# EAGLE library part 5176381-3 (library kotuku)
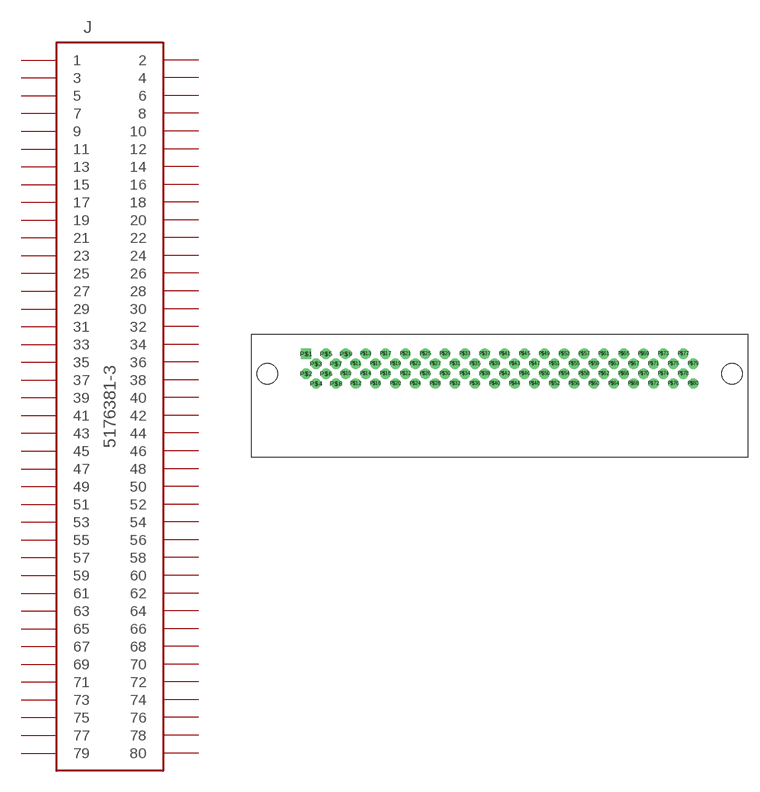
[diagram p21: symbol with the pads of 5176381-3; footprint 5176381-3]

Designator prefix J

## 5176381-3  [5176381-3]
P$1  1
P$2  2
P$3  3
P$4  4
P$5  5
P$6  6
P$7  7
P$8  8
P$9  9
P$10  10
P$11  11
P$12  12
P$13  13
P$14  14
P$15  15
P$16  16
P$17  17
P$18  18
P$19  19
P$20  20
P$21  21
P$22  22
P$23  23
P$24  24
P$25  25
P$26  26
P$27  27
P$28  28
P$29  29
P$30  30
P$31  31
P$32  32
P$33  33
P$34  34
P$35  35
P$36  36
P$37  37
P$38  38
P$39  39
P$40  40
P$41  41
P$42  42
P$43  43
P$44  44
P$45  45
P$46  46
P$47  47
P$48  48
P$49  49
P$50  50
P$51  51
P$52  52
P$53  53
P$54  54
P$55  55
P$56  56
P$57  57
P$58  58
P$59  59
P$60  60
P$61  61
P$62  62
P$63  63
P$64  64
P$65  65
P$66  66
P$67  67
P$68  68
P$69  69
P$70  70
P$71  71
P$72  72
P$73  73
P$74  74
P$75  75
P$76  76
P$77  77
P$78  78
P$79  79
P$80  80

## Footprint 5176381-3 (pad centres in mm)
drill 0.8 pad 1.143 square: P$1 -24.765,1.905
drill 0.8 pad 1.143: P$2 -24.765,-0.635; P$3 -23.495,0.635; P$4 -23.495,-1.905; P$5 -22.225,1.905; P$6 -22.225,-0.635; P$7 -20.955,0.635; P$8 -20.955,-1.905; P$9 -19.685,1.905; P$10 -19.685,-0.635; P$11 -18.415,0.635; P$12 -18.415,-1.905; P$13 -17.145,1.905; P$14 -17.145,-0.635; P$15 -15.875,0.635; P$16 -15.875,-1.905; P$17 -14.605,1.905; P$18 -14.605,-0.635; P$19 -13.335,0.635; P$20 -13.335,-1.905; P$21 -12.065,1.905; P$22 -12.065,-0.635; P$23 -10.795,0.635; P$24 -10.795,-1.905; P$25 -9.525,1.905; P$26 -9.525,-0.635; P$27 -8.255,0.635; P$28 -8.255,-1.905; P$29 -6.985,1.905; P$30 -6.985,-0.635; P$31 -5.715,0.635; P$32 -5.715,-1.905; P$33 -4.445,1.905; P$34 -4.445,-0.635; P$35 -3.175,0.635; P$36 -3.175,-1.905; P$37 -1.905,1.905; P$38 -1.905,-0.635; P$39 -0.635,0.635; P$40 -0.635,-1.905; P$41 0.635,1.905; P$42 0.635,-0.635; P$43 1.905,0.635; P$44 1.905,-1.905; P$45 3.175,1.905; P$46 3.175,-0.635; P$47 4.445,0.635; P$48 4.445,-1.905; P$49 5.715,1.905; P$50 5.715,-0.635; P$51 6.985,0.635; P$52 6.985,-1.905; P$53 8.255,1.905; P$54 8.255,-0.635; P$55 9.525,0.635; P$56 9.525,-1.905; P$57 10.795,1.905; P$58 10.795,-0.635; P$59 12.065,0.635; P$60 12.065,-1.905; P$61 13.335,1.905; P$62 13.335,-0.635; P$63 14.605,0.635; P$64 14.605,-1.905; P$65 15.875,1.905; P$66 15.875,-0.635; P$67 17.145,0.635; P$68 17.145,-1.905; P$69 18.415,1.905; P$70 18.415,-0.635; P$71 19.685,0.635; P$72 19.685,-1.905; P$73 20.955,1.905; P$74 20.955,-0.635; P$75 22.225,0.635; P$76 22.225,-1.905; P$77 23.495,1.905; P$78 23.495,-0.635; P$79 24.765,0.635; P$80 24.765,-1.905
hole 2.6 at -29.75,-0.635
hole 2.6 at 29.75,-0.635